# Altium footprint library Crazy_PCB.PcbLib: 126 footprints (part 1 of 8)
Each footprint in its own frame and in the unit in brackets; x right, y up, seen from the top. Pads: shape width x height; smd on the part's side, far side on the other; paste and mask are expansions set on the pad; w line width, h text height; cw(c..) or ccw(c..) is an arc to the next point about the centre after c.
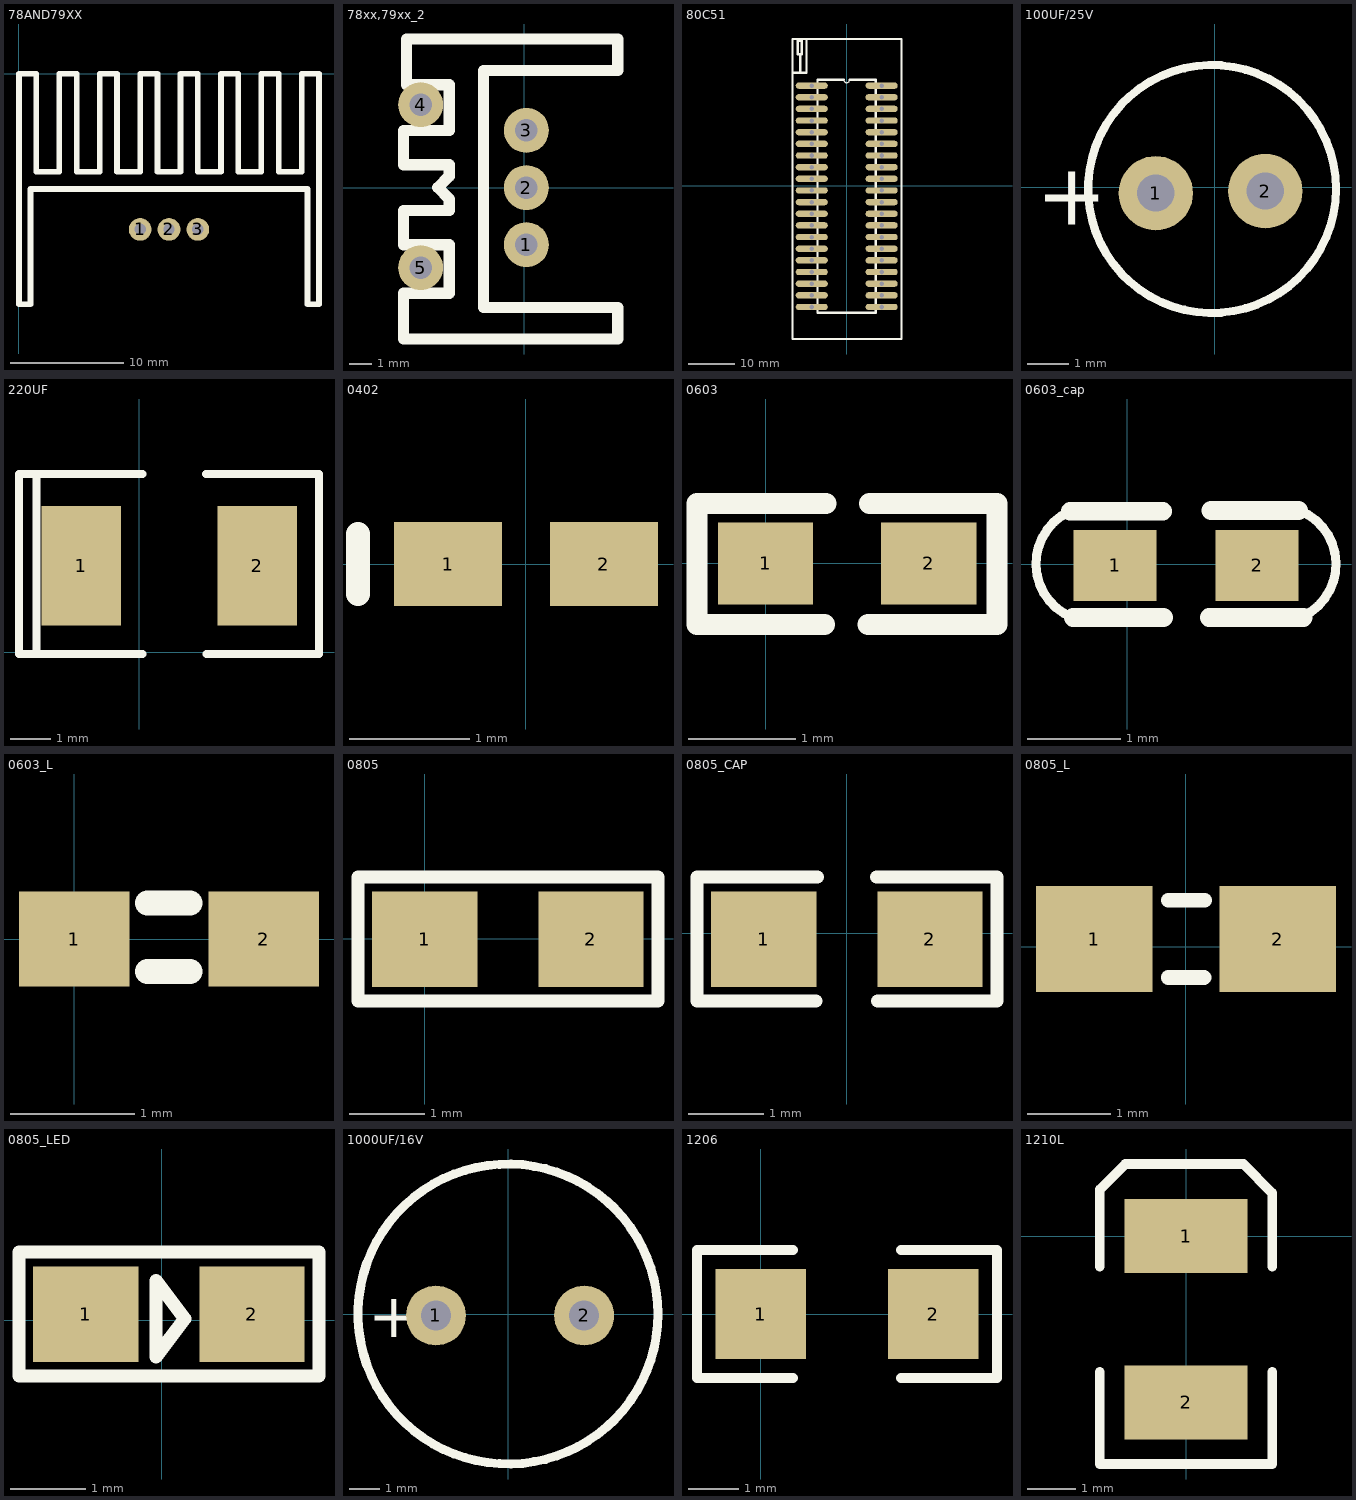
[diagram p0: the footprints below, top view; thin cyan lines are the x and y axes]

## 78AND79XX [mm]
height 6.35
pads (3):
  round 2 hole 1: 1(10.668,-13.716) 2(13.208,-13.716) 3(15.748,-13.716)
Top Overlay:
  lines w0.5: 0,-20.32 1.016,-20.32 1.016,-10.16 24.384,-10.16 25.4,-10.16 25.4,-20.32 26.416,-20.32 26.416,0 24.892,0 24.892,-8.636 24.384,-8.636 23.876,-8.636 22.86,-8.636 22.86,0 21.336,0 21.336,-8.636 19.304,-8.636 19.304,0 17.78,0 17.78,-8.636 15.748,-8.636 15.748,0 14.224,0 14.224,-8.636 12.192,-8.636 12.192,0 10.668,0 10.668,-8.636 8.636,-8.636 8.636,0 7.112,0 7.112,-8.636 5.08,-8.636 5.08,0 4.572,0 3.556,0 3.556,-8.636 3.048,-8.636 1.524,-8.636 1.524,0 0,0 0,-10.16 0,-20.32

## 78xx,79xx_2 [mm]
pads (5):
  round 2 hole 1: 1(0.097,-2.526) 2(0.097,0.014) 3(0.097,2.554) 4(-4.602,3.697) 5(-4.602,-3.542)
Top Overlay:
  lines w0.5: -5.364,-6.717 -3.332,-6.717 4.161,-6.717 4.161,-5.32 -1.808,-5.32 -1.808,5.221 4.161,5.221 4.161,6.618 -5.237,6.618 -5.237,4.586 -3.332,4.586 -3.332,2.554 -5.364,2.554 -5.364,1.03 -3.332,1.03 -3.332,0.522 -3.84,0.014 -3.332,-0.494 -3.332,-1.002 -5.364,-1.002 -5.364,-2.526 -3.332,-2.526 -3.332,-4.685 -5.364,-4.685 -5.364,-6.717

## 80C51 [mm] "MCU_P40"
pads (40):
  oval 7x1.38 hole 1: 1(-7.609,21.848) 2(-7.609,19.308) 3(-7.609,16.768) 4(-7.609,14.228) 5(-7.609,11.688) 6(-7.609,9.148) 7(-7.609,6.608) 8(-7.609,4.068) 9(-7.609,1.528) 10(-7.609,-1.012) 11(-7.609,-3.552) 12(-7.609,-6.092) 13(-7.609,-8.632) 14(-7.609,-11.172) 15(-7.609,-13.712) 16(-7.609,-16.252) 17(-7.609,-18.792) 18(-7.609,-21.332) 19(-7.609,-23.872) 20(-7.609,-26.412) 21(7.631,-26.412) 22(7.631,-23.872) 23(7.631,-21.332) 24(7.631,-18.792) 25(7.631,-16.252) 26(7.631,-13.712) 27(7.631,-11.172) 28(7.631,-8.632) 29(7.631,-6.092) 30(7.631,-3.552) 31(7.631,-1.012) 32(7.631,1.528) 33(7.631,4.068) 34(7.631,6.608) 35(7.631,9.148) 36(7.631,11.688) 37(7.631,14.228) 38(7.631,16.768) 39(7.631,19.308) 40(7.631,21.848)
Top Overlay:
  lines w0.254: -0.624,23.118 ccw(c0.011,23.118) 0.646,23.118
  lines w0.5: -11.8,21.848 -11.8,32.008 11.949,32.008 11.949,21.848 11.949,-33.397 -9.006,-33.397 ; -11.8,22.61 -11.8,-33.397 -8.879,-33.397 ; -11.673,24.642 -8.752,24.642 -8.752,26.801 -8.752,32.008 ; -10.149,24.642 -10.149,28.706 ; -9.768,28.833 -9.768,28.706 ; -0.624,23.118 -6.339,23.118 -6.339,-27.682 6.361,-27.682 6.361,23.118 0.646,23.118 ; -9.768,28.706 -10.657,28.706 -10.657,31.627 -9.768,31.627 -9.768,28.706

## 100UF/25V [mm]
height 8
pads (2):
  round 1.8 hole 0.9: 1(-1.42,-0.14) 2(1.23,-0.09)
Top Overlay:
  circle w0.2: c-0.06,-0.04 r3
  text "+" at -4.32,-0.9 h1.5

## 220UF [mm]
height 4
pads (2):
  rect 2x3 smd: 1(-1.45,2.17) 2(2.96,2.17)
Top Overlay:
  lines w0.2: -3.01,-0.04 -3.01,4.46 ; -3,4.46 0.08,4.46 ; -2.99,-0.05 0.09,-0.05 ; -2.57,0.01 -2.57,4.45 ; 1.68,4.46 4.46,4.46 ; 1.69,-0.05 4.51,-0.05 4.51,4.47

## 0402 [mm] "Chip Capacitor; Body 1.0 x 0.5 mm (LxW typ)"
height 1.35
pads (2):
  rect 0.9x0.7 smd: 1(-0.65,0) 2(0.65,0)
Top Overlay:
  lines w0.2: -1.4,-0.25 -1.4,0.25

## 0603 [mil]
height 82.68
pads (2):
  rect 35x30 smd: 1(0,0) 2(60,0)
Top Overlay:
  lines w7.87: 21.65,-22.44 -25.2,-22.44 -25.2,22.05 22.05,22.05 ; 37.8,-22.44 85.04,-22.44 85.04,22.05 38.19,22.05

## 0603_cap [mil]
height 82.68
pads (2):
  rect 35x30 smd: 1(-5.12,-0.39) 2(54.88,-0.39)
Top Overlay:
  lines w3.94: -24.41,22.44 ccw(c-14.15,0.28) -23.13,-22.43 ; 72.83,22.83 cw(c63.86,0.12) 74.12,-22.04
  lines w7.87: -24.02,22.44 14.96,22.44 ; -22.83,-22.44 15.35,-22.44 ; 34.65,-22.44 74.41,-22.44 ; 35.43,22.83 72.44,22.83

## 0603_L [mil]
height 82.68
pads (2):
  rect 35x30 smd: 1(0,0) 2(60,0)
Top Overlay:
  lines w7.87: 23.23,-10.24 36.61,-10.24 ; 23.23,11.42 36.61,11.42

## 0805 [mm]
height 2
pads (2):
  rect 1.4x1.27 smd: 1(-0.001,-0.007) 2(2.209,-0.007)
Top Overlay:
  lines w0.178: -0.89,-0.83 -0.89,0.82 3.1,0.82 3.1,-0.83 -0.89,-0.83

## 0805_CAP [mm]
height 2
pads (2):
  rect 1.4x1.27 smd: 1(-1.101,-0.077) 2(1.109,-0.077)
Top Overlay:
  lines w0.178: -0.41,-0.9 -1.99,-0.9 -1.99,0.75 -0.39,0.75 ; 0.4,0.75 2,0.75 2,-0.9 0.41,-0.9

## 0805_L [mm] "Inductor"
height 2
pads (2):
  rect 1.4x1.27 smd: 1(-1.101,0.093) 2(1.109,0.093)
Top Overlay:
  lines w0.178: -0.21,-0.37 0.22,-0.37 ; -0.21,0.56 0.23,0.56

## 0805_LED [mm]
height 2
pads (2):
  rect 1.4x1.27 smd: 1(-1.011,0.083) 2(1.199,0.083)
Top Overlay:
  lines w0.178: -1.9,-0.74 2.09,-0.74 2.09,0.91 -1.9,0.91 -1.9,-0.74 ; -0.077,-0.485 0.304,0.023 -0.077,0.531 -0.077,-0.485

## 1000UF/16V [mm]
pads (2):
  round 2 hole 1: 1(-2.41,-0.04) 2(2.53,-0.04)
Top Overlay:
  circle w0.3: c-0.01,0.01 r5
  text "+" at -4.66,-0.77 h1.5

## 1206 [mm]
height 2.1
pads (2):
  rect 1.8x1.8 smd: 1(0,0) 2(3.429,0)
Top Overlay:
  lines w0.2: 0.635,-1.27 -1.27,-1.27 -1.27,1.27 0.635,1.27 ; 2.794,-1.27 4.699,-1.27 4.699,1.27 2.794,1.27

## 1210L [mil]
height 82.68
pads (2):
  rect 100x60 smd: 1(0,0) 2(0,-135)
Top Overlay:
  lines w7.87: -70,-110 -70,-185 70,-185 70,-110 ; -70,-25 -70,37.77 -49.25,58.51 46.66,58.51 70,35.17 70,-25